# Altium footprint library WakamelibGOOD.PCBLIB: 54 footprints (part 1 of 4)
Each footprint in its own frame and in the unit in brackets; x right, y up, seen from the top. Pads: shape width x height; smd on the part's side, far side on the other; paste and mask are expansions set on the pad; w line width, h text height; cw(c..) or ccw(c..) is an arc to the next point about the centre after c.
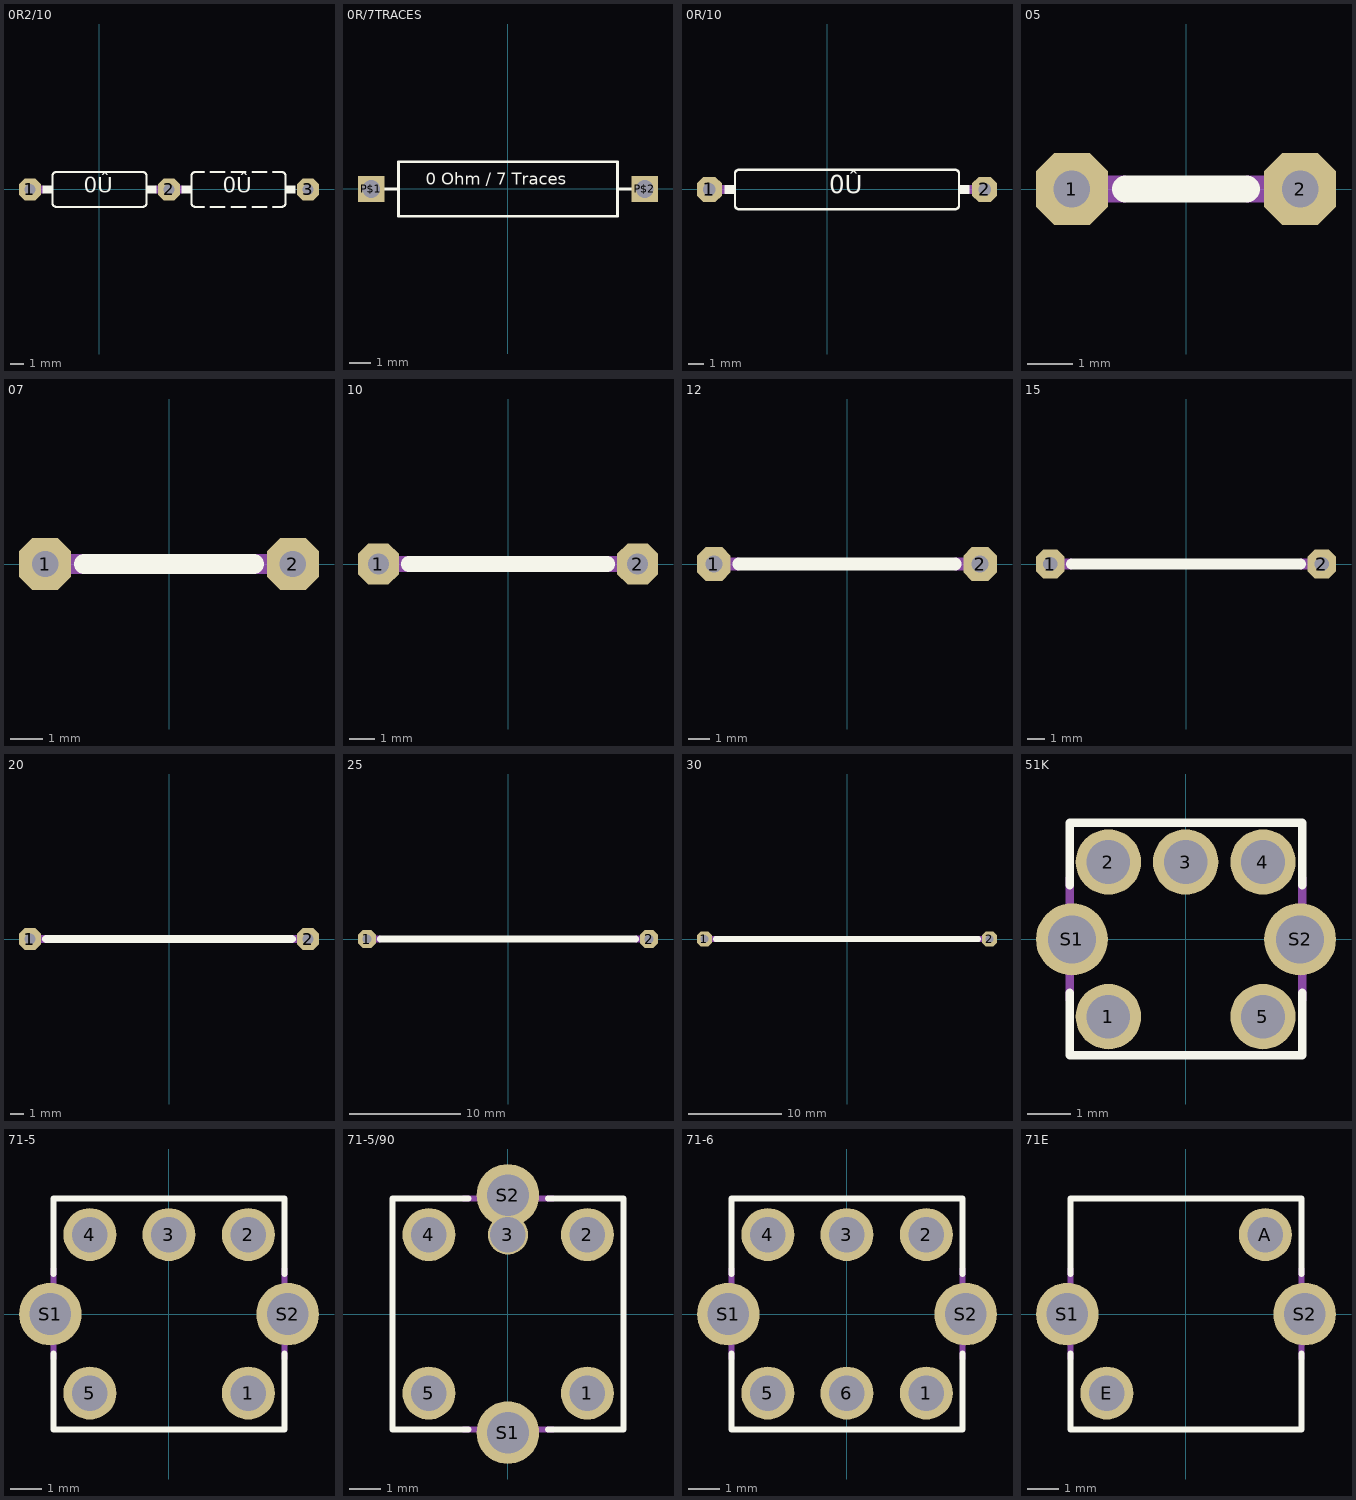
[diagram p0: the footprints below, top view; thin cyan lines are the x and y axes]

## 0R2/10 [mil]
pads (3):
  oct 63x63 hole 32: 1(-200,0) 2(200,0) 3(600,0)
Top Overlay:
  rectangle: -164,-12 -135,12
  rectangle: 135,-12 164,12
  rectangle: 236,-12 265,12
  rectangle: 535,-12 564,12
  lines w6: 300,-50 275,-50 cw(c275,-40) 265,-40 265,40 cw(c275,40) 275,50 300,50 ; 320,-50 360,-50 ; 320,50 360,50 ; 380,-50 420,-50 ; 380,50 420,50 ; 440,-50 480,-50 ; 440,50 480,50 ; 500,-50 525,-50 ccw(c525,-40) 535,-40 535,40 ccw(c525,40) 525,50 500,50 ; -135,-40 ccw(c-125,-40) -125,-50 125,-50 ccw(c125,-40) 135,-40 135,40 ccw(c125,40) 125,50 -125,50 ccw(c-125,40) -135,40 -135,-40
  text "0Û" at -45,-25 h77.5
  text "0Û" at 355,-25 h77.5
Mechanical 16:
  lines w6: 570,0 600,0
  lines w24: -200,0 -165,0 ; 165,0 235,0

## 0R/7TRACES [mil]
pads (2):
  rect 48x48 hole 32: P$1(-250,0) P$2(250,0)
Top Overlay:
  lines w5: -250,0 -200,0 ; 250,0 200,0 ; -200,0 -200,50 200,50 200,0 ; -200,0 -200,-50 200,-50 200,0
  text "0 Ohm / 7 Traces" at -150,0 h37.2

## 0R/10 [mil]
pads (2):
  oct 63x63 hole 32: 1(-300,0) 2(400,0)
Top Overlay:
  rectangle: -262,-12 -235,12
  rectangle: 335,-12 362,12
  lines w6: -235,-40 ccw(c-225,-40) -225,-50 325,-50 ccw(c325,-40) 335,-40 335,40 ccw(c325,40) 325,50 -225,50 ccw(c-225,40) -235,40 -235,-40
  text "0Û" at 5,-25 h77.5
Mechanical 16:
  lines w24: -300,0 -265,0 ; 365,0 400,0

## 05 [mil]
pads (2):
  oct 63x63 hole 32: 1(-100,0) 2(100,0)
Top Overlay:
  lines w24: -53,0 53,0
Mechanical 16:
  lines w24: -100,0 -55,0 ; 55,0 100,0

## 07 [mil]
pads (2):
  oct 63x63 hole 32: 1(-150,0) 2(150,0)
Top Overlay:
  lines w24: -103,0 103,0
Mechanical 16:
  lines w24: -150,0 -100,0 ; 100,0 150,0

## 10 [mil]
pads (2):
  oct 63x63 hole 32: 1(-200,0) 2(200,0)
Top Overlay:
  lines w24: -153,0 153,0
Mechanical 16:
  lines w24: -200,0 -155,0 ; 155,0 200,0

## 12 [mil]
pads (2):
  oct 63x63 hole 32: 1(-250,0) 2(250,0)
Top Overlay:
  lines w24: -203,0 203,0
Mechanical 16:
  lines w24: -250,0 -205,0 ; 205,0 250,0

## 15 [mil]
pads (2):
  oct 63x63 hole 32: 1(-300,0) 2(300,0)
Top Overlay:
  lines w24: -253,0 253,0
Mechanical 16:
  lines w24: -300,0 -255,0 ; 255,0 300,0

## 20 [mil]
pads (2):
  oct 63x63 hole 32: 1(-400,0) 2(400,0)
Top Overlay:
  lines w24: -353,0 353,0
Mechanical 16:
  lines w24: -400,0 -355,0 ; 355,0 400,0

## 25 [mil]
pads (2):
  oct 63x63 hole 32: 1(-500,0) 2(500,0)
Top Overlay:
  lines w24: -453,0 453,0
Mechanical 16:
  lines w24: -500,0 -455,0 ; 455,0 500,0

## 30 [mil]
pads (2):
  oct 63x63 hole 32: 1(-600,0) 2(600,0)
Top Overlay:
  lines w24: -553,0 553,0
Mechanical 16:
  lines w24: -600,0 -555,0 ; 555,0 600,0

## 51K [mil]
pads (7):
  round 60 hole 40: 1(-70.87,-70.87) 2(-70.87,71) 3(0,71) 4(71,71) 5(71,-70.87)
  round 66 hole 44: S1(-104.33,0) S2(105,0)
Top Overlay:
  lines w8: -106.3,-49.21 -106.3,-106.3 107,-106.3 107,-49.21 ; -106.3,50 -106.3,107 107,107 107,50
Mechanical 16:
  lines w8: -106.3,-55.12 -106.3,56 ; 107,-55.12 107,56

## 71-5 [mil]
pads (7):
  round 66 hole 44: 1(99,-98.43) 2(99,99) 3(0,99) 4(-98.43,99) 5(-98.43,-98.43)
  round 78 hole 52: S1(-147.64,0) S2(148,0)
Top Overlay:
  lines w8: -143.7,-49.21 -143.7,-143.7 144,-143.7 144,-49.21 ; -143.7,50 -143.7,144 144,144 144,50
Mechanical 16:
  lines w8: -143.7,-55.12 -143.7,56 ; 144,-55.12 144,56

## 71-5/90 [mil]
pads (7):
  round 66 hole 44: 1(99,-98.43) 2(99,99) 4(-98.43,99) 5(-98.43,-98.43)
  round 50 hole 44: 3(0,99)
  round 78 hole 52: S1(0,-147.64) S2(0,148)
Top Overlay:
  lines w8: -49.21,-143.7 -143.7,-143.7 -143.7,144 -49.21,144 ; 50,-143.7 144,-143.7 144,144 50,144
Mechanical 16:
  lines w8: -55.12,-143.7 56,-143.7 ; -55.12,144 56,144

## 71-6 [mil]
pads (8):
  round 66 hole 44: 1(99,-98.43) 2(99,99) 3(0,99) 4(-98.43,99) 5(-98.43,-98.43) 6(0,-98.43)
  round 78 hole 52: S1(-147.64,0) S2(148,0)
Top Overlay:
  lines w8: -143.7,-49.21 -143.7,-143.7 144,-143.7 144,-49.21 ; -143.7,50 -143.7,144 144,144 144,50
Mechanical 16:
  lines w8: -143.7,-55.12 -143.7,56 ; 144,-55.12 144,56

## 71E [mil]
pads (4):
  round 66 hole 44: A(99,99) E(-98.43,-98.43)
  round 78 hole 52: S1(-147.64,0) S2(148,0)
Top Overlay:
  lines w8: -143.7,-49.21 -143.7,-143.7 144,-143.7 144,-49.21 ; -143.7,50 -143.7,144 144,144 144,50
Mechanical 16:
  lines w8: -143.7,-55.12 -143.7,56 ; 144,-55.12 144,56